# Altium schematic symbol library WSLP4026L5000FEA.SchLib: 1 symbol
Pins are listed as number, name and electrical type; pins without a type are passive.

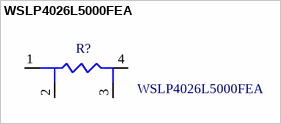
[diagram p0: symbol WSLP4026L5000FEA]

## WSLP4026L5000FEA
designator R?
Current Sense Resistors - SMD 7watt .0005ohm 1%
footprint WSLP4026L5000FEA
pins: 1, 2, 3, 4